# Altium footprint library QFP100P50_1600X1600X160L60X19N.PcbLib: 1 footprints
Each footprint in its own frame and in the unit in brackets; x right, y up, seen from the top. Pads: shape width x height; smd on the part's side, far side on the other; paste and mask are expansions set on the pad; w line width, h text height; cw(c..) or ccw(c..) is an arc to the next point about the centre after c.
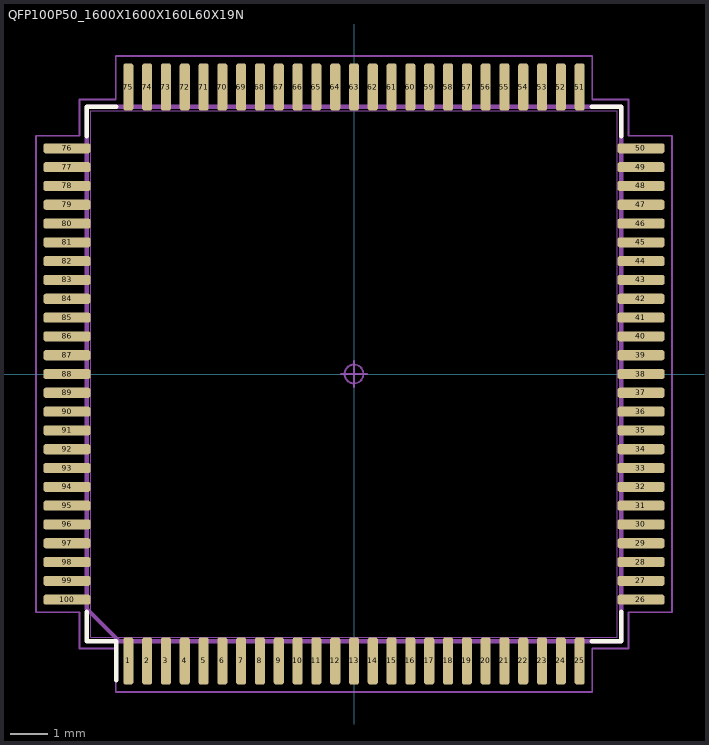
[diagram p0: the footprint, top view; thin cyan lines are the x and y axes]

## QFP100P50_1600X1600X160L60X19N [mm] "Quad Flat Pack (QFP), 0.50 mm pitch; square, 25 pin X 25 pin, 14.00 mm L X 14.00 mm W X 1.60 mm H body"
height 1.6
pads (100):
  rrect52% 0.27x1.26 smd: 1(-6,-7.63) 2(-5.5,-7.63) 3(-5,-7.63) 4(-4.5,-7.63) 5(-4,-7.63) 6(-3.5,-7.63) 7(-3,-7.63) 8(-2.5,-7.63) 9(-2,-7.63) 10(-1.5,-7.63) 11(-1,-7.63) 12(-0.5,-7.63) 13(0,-7.63) 14(0.5,-7.63) 15(1,-7.63) 16(1.5,-7.63) 17(2,-7.63) 18(2.5,-7.63) 19(3,-7.63) 20(3.5,-7.63) 21(4,-7.63) 22(4.5,-7.63) 23(5,-7.63) 24(5.5,-7.63) 25(6,-7.63) 51(6,7.63) 52(5.5,7.63) 53(5,7.63) 54(4.5,7.63) 55(4,7.63) 56(3.5,7.63) 57(3,7.63) 58(2.5,7.63) 59(2,7.63) 60(1.5,7.63) 61(1,7.63) 62(0.5,7.63) 63(0,7.63) 64(-0.5,7.63) 65(-1,7.63) 66(-1.5,7.63) 67(-2,7.63) 68(-2.5,7.63) 69(-3,7.63) 70(-3.5,7.63) 71(-4,7.63) 72(-4.5,7.63) 73(-5,7.63) 74(-5.5,7.63) 75(-6,7.63)
  rrect52% 1.26x0.27 smd: 26(7.63,-6) 27(7.63,-5.5) 28(7.63,-5) 29(7.63,-4.5) 30(7.63,-4) 31(7.63,-3.5) 32(7.63,-3) 33(7.63,-2.5) 34(7.63,-2) 35(7.63,-1.5) 36(7.63,-1) 37(7.63,-0.5) 38(7.63,0) 39(7.63,0.5) 40(7.63,1) 41(7.63,1.5) 42(7.63,2) 43(7.63,2.5) 44(7.63,3) 45(7.63,3.5) 46(7.63,4) 47(7.63,4.5) 48(7.63,5) 49(7.63,5.5) 50(7.63,6) 76(-7.63,6) 77(-7.63,5.5) 78(-7.63,5) 79(-7.63,4.5) 80(-7.63,4) 81(-7.63,3.5) 82(-7.63,3) 83(-7.63,2.5) 84(-7.63,2) 85(-7.63,1.5) 86(-7.63,1) 87(-7.63,0.5) 88(-7.63,0) 89(-7.63,-0.5) 90(-7.63,-1) 91(-7.63,-1.5) 92(-7.63,-2) 93(-7.63,-2.5) 94(-7.63,-3) 95(-7.63,-3.5) 96(-7.63,-4) 97(-7.63,-4.5) 98(-7.63,-5) 99(-7.63,-5.5) 100(-7.63,-6)
Top Overlay:
  lines w0.12: -7.1,-6.32 -7.1,-7.1 -6.32,-7.1 -6.32,-8.14 ; -7.1,6.32 -7.1,7.1 -6.32,7.1 ; 6.32,-7.1 7.1,-7.1 7.1,-6.32 ; 6.32,7.1 7.1,7.1 7.1,6.32
Mechanical 3:
  lines w0.12: -7.1,-6.25 -6.25,-7.1 7.1,-7.1 7.1,7.1 -7.1,7.1 -7.1,-6.25
Mechanical 5:
  drawing of 404 lines, arcs and shapes, not listed
Mechanical 7:
  circle w0.05: c0,0 r0.25
  lines w0.05: -0.35,0 0.35,0 ; 0,-0.35 0,0.35 ; -8.46,-6.335 -7.3,-6.335 -7.3,-7.3 -6.335,-7.3 -6.335,-8.46 6.335,-8.46 6.335,-7.3 7.3,-7.3 7.3,-6.335 8.46,-6.335 8.46,6.335 7.3,6.335 7.3,7.3 6.335,7.3 6.335,8.46 -6.335,8.46 -6.335,7.3 -7.3,7.3 -7.3,6.335 -8.46,6.335 -8.46,-6.335
Mechanical 9:
  text "'.Designator'" at -5.53,-0.379 h1
3D body: height 0.03, standoff 0, extent -8.45,-8.45 8.475,8.475
3D body "QFP100P50_1600X1600X160L60X19.STEP": height 1.6, standoff 0, extent -8,-8 8,8
3D body: height 1.04, standoff 0, extent -8.46,-8.46 8.46,8.46